# EAGLE library part SN74LVC (library farnell-parts)
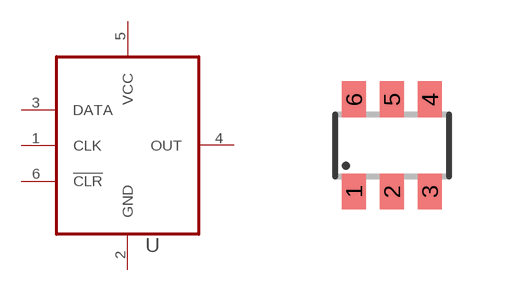
[diagram p8: symbol with the pads of SOT23-6; footprint SOT23-6]

Designator prefix U

## SN74LVC  [SOT23-6]
1  CLK  in
2  GND  pwr
3  DATA  in
4  OUT  out
5  VCC  pwr
6  !CLR  in

## Footprint SOT23-6 (pad centres in mm)
Small Outline Transistor 6 lead
smd 0.6 x 0.9: 1 -0.95,-1.15; 2 0,-1.15; 3 0.95,-1.15; 4 0.95,1.15; 5 0,1.15; 6 -0.95,1.15